# Altium schematic symbol library ESDA25L.SchLib: 2 symbols
Pins are listed as number, name and electrical type; pins without a type are passive.

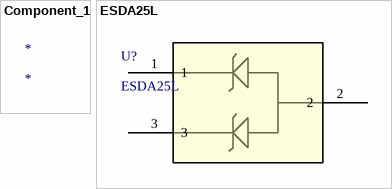
[diagram p0: symbols Component_1 to ESDA25L]

## Component_1
designator *

## ESDA25L
designator U?
No Description Available; Mfr_Name: STMicroelectronics; Copyright: Copyright (C) 2023 Ultra Librarian. All rights reserved.; Manufacturer_Part_Number: ESDA25L; Digi-Key_Part_Number_1: 497-4642-1-ND; Digi-Key_Part_Number_2: 497-4642-2-ND; Digi-Key_Part_Number_3: 497-4642-6-ND; RefDes: RefDes; Type: DEV
footprint SOT_A25L_STM
pins: 1, 2, 3